# Altium schematic symbol library FGY75N60SMD.Schlib: 1 symbol
Pins are listed as number, name and electrical type; pins without a type are passive.

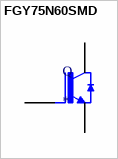
[diagram p0: symbol FGY75N60SMD]

## FGY75N60SMD
designator Q
IGBT Field Stop 600V 150A 750W Through Hole PowerTO-247-3; MF: ON Semiconductor; MP: FGY75N60SMD; Package: TO-247 Fairchild Semiconductor; Supplier 1: Digi-Key; Supplier Part Number 1: FGY75N60SMDFS-ND
footprint TO-247-3
footprint TO-247-3 - FaceDown
pins: 1 G, 2 C, 3 E